# EAGLE library part P8X32A-M44 (library Parallax Propeller)
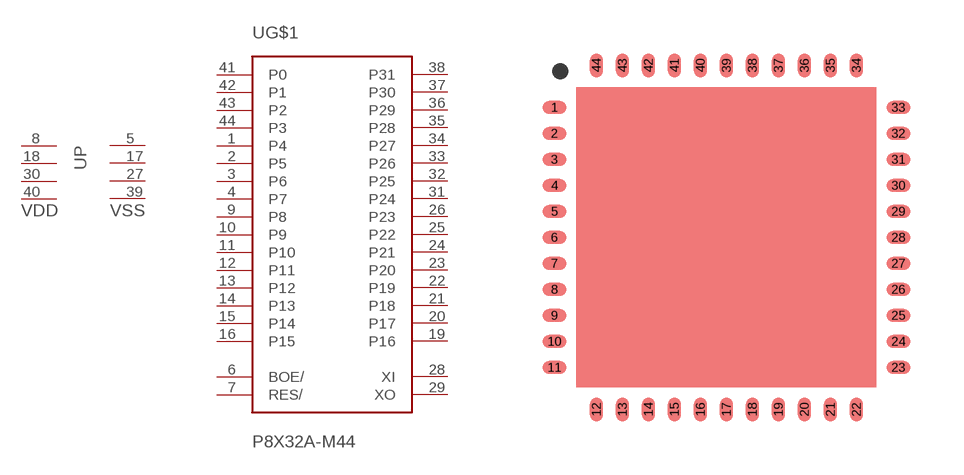
[diagram p1: symbol with the pads of P8X32A-M44; footprint P8X32A-M44]

Designator prefix -; gates G$1=P8X32A P=4VDD4VSS

## P8X32A-M44  [P8X32A-M44]
1  G$1:P4
2  G$1:P5
3  G$1:P6
4  G$1:P7
5  P:VSS  pwr
6  G$1:BOE/  in
7  G$1:RES/
8  P:VDD  pwr
9  G$1:P8
10  G$1:P9
11  G$1:P10
12  G$1:P11
13  G$1:P12
14  G$1:P13
15  G$1:P14
16  G$1:P15
17  P:VSS  pwr
18  P:VDD  pwr
19  G$1:P16
20  G$1:P17
21  G$1:P18
22  G$1:P19
23  G$1:P20
24  G$1:P21
25  G$1:P22
26  G$1:P23
27  P:VSS  pwr
28  G$1:XI  in
29  G$1:XO  out
30  P:VDD  pwr
31  G$1:P24
32  G$1:P25
33  G$1:P26
34  G$1:P27
35  G$1:P28
36  G$1:P29
37  G$1:P30
38  G$1:P31
39  P:VSS  pwr
40  P:VDD  pwr
41  G$1:P0
42  G$1:P1
43  G$1:P2
44  G$1:P3

## Footprint P8X32A-M44 (pad centres in mm)
smd 0.6 x 0.33: 1 -4.11,2.901; 2 -4.11,2.251; 3 -4.11,1.601; 4 -4.11,0.951; 5 -4.11,0.301; 6 -4.11,-0.349; 7 -4.11,-0.999; 8 -4.11,-1.649; 9 -4.11,-2.299; 10 -4.11,-2.949; 11 -4.11,-3.599; 23 4.49,-3.599; 24 4.49,-2.949; 25 4.49,-2.299; 26 4.49,-1.649; 27 4.49,-0.999; 28 4.49,-0.349; 29 4.49,0.301; 30 4.49,0.951; 31 4.49,1.601; 32 4.49,2.251; 33 4.49,2.901
smd 0.33 x 0.6: 12 -3.06,-4.649; 13 -2.41,-4.649; 14 -1.76,-4.649; 15 -1.11,-4.649; 16 -0.46,-4.649; 17 0.19,-4.649; 18 0.84,-4.649; 19 1.49,-4.649; 20 2.14,-4.649; 21 2.79,-4.649; 22 3.44,-4.649; 34 3.44,3.951; 35 2.79,3.951; 36 2.14,3.951; 37 1.49,3.951; 38 0.84,3.951; 39 0.19,3.951; 40 -0.46,3.951; 41 -1.11,3.951; 42 -1.76,3.951; 43 -2.41,3.951; 44 -3.06,3.951